# Altium footprint library DIP_Switch_SPST_CopalElectronics_CHS-01TB.PcbLib: 1 footprints
Each footprint in its own frame and in the unit in brackets; x right, y up, seen from the top. Pads: shape width x height; smd on the part's side, far side on the other; paste and mask are expansions set on the pad; w line width, h text height; cw(c..) or ccw(c..) is an arc to the next point about the centre after c.
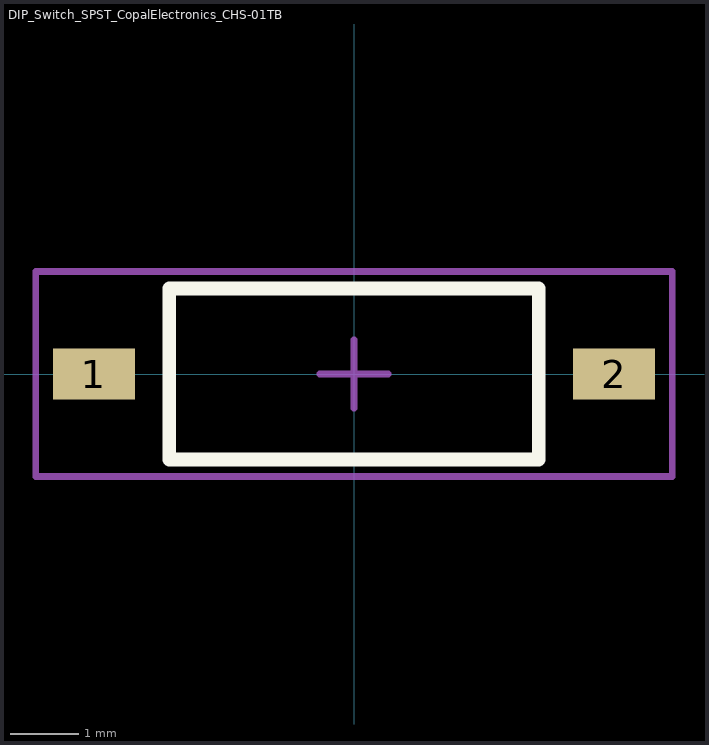
[diagram p0: the footprint, top view; thin cyan lines are the x and y axes]

## DIP_Switch_SPST_CopalElectronics_CHS-01TB [mm]
height 2.5
pads (2):
  rect 1.2x0.75 smd: 1(-3.8,0) 2(3.8,0)
Top Overlay:
  lines w0.2: -2.7,-1.25 2.7,-1.25 2.7,1.25 -2.7,1.25 -2.7,-1.25
Mechanical 13:
  lines w0.1: -2.7,-1.25 2.7,-1.25 2.7,1.25 -2.7,1.25 -2.7,-1.25
Mechanical 15:
  lines w0.1: -0.5,0 0.5,0 ; 0,-0.5 0,0.5 ; -4.65,-1.5 4.65,-1.5 4.65,1.5 -4.65,1.5 -4.65,-1.5
3D body: height 2.5, standoff 0, extent -2.7,-1.25 2.7,1.25